# Altium footprint library PCB - LEADLESS - SON - MICRO CRYSTAL 10-SON (3.7x2.5).PCBLIB: 1 footprints
Each footprint in its own frame and in the unit in brackets; x right, y up, seen from the top. Pads: shape width x height; smd on the part's side, far side on the other; paste and mask are expansions set on the pad; w line width, h text height; cw(c..) or ccw(c..) is an arc to the next point about the centre after c.
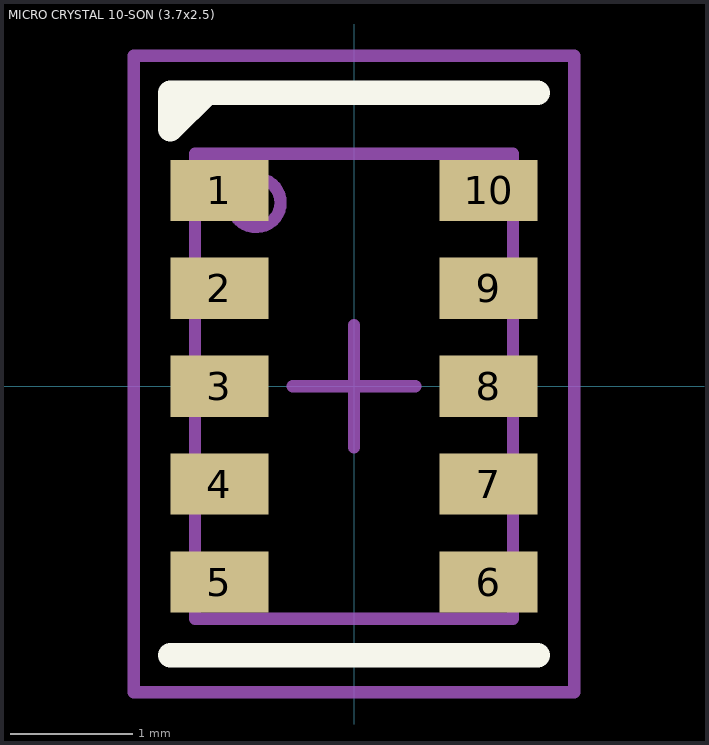
[diagram p0: the footprint, top view; thin cyan lines are the x and y axes]

## MICRO CRYSTAL 10-SON (3.7x2.5) [mm]
height 0.8
pads (10):
  rect 0.8x0.5 smd mask+0.05: 1(-1.1,1.6) 2(-1.1,0.8) 3(-1.1,0) 4(-1.1,-0.8) 5(-1.1,-1.6) 6(1.1,-1.6) 7(1.1,-0.8) 8(1.1,0) 9(1.1,0.8) 10(1.1,1.6)
Top Overlay:
  lines w0.2: -1.5,-2.2 1.5,-2.2 ; -1.2,2.4 -1.5,2.1 -1.5,2.4 1.5,2.4
Mechanical 13:
  circle w0.1: c-0.8,1.5 r0.2
  lines w0.1: -1.3,-1.9 1.3,-1.9 1.3,1.9 -1.3,1.9 -1.3,-1.9
Mechanical 15:
  lines w0.1: -0.5,0 0.5,0 ; 0,-0.5 0,0.5 ; -1.8,-2.5 1.8,-2.5 1.8,2.7 -1.8,2.7 -1.8,-2.5
3D body "RV-3129-C3.stp": height 0.9, standoff 0, extent -1.25,-1.85 1.25,1.85